# EAGLE library part XMC120X-T038 (library PatternAgents-Infineon)
Infineon XMC120X ARM Cortex M0 For the CADSoft Eagle CAD program : http://www.cadsoftusa.com/download-eagle/ Source LBR : http://www.patternagents.com Github : https://github.com/PatternAgents License : http://creativecommons.org/licenses/by-sa/4.0/ (Creative Commons 4.0) THIS SOFTWARE IS PROVIDED BY THE CONTRIBUTORS "AS IS" AND WITHOUT ANY EXPRESS OR IMPLIED WARRANTIES, INCLUDING, BUT NOT LIMITED TO, THE IMPLIED WARRANTIES OF MERCHANTABILITY AND FITNESS FOR A PARTICULAR PURPOSE ARE DISCLAIMED. IN NO EVENT SHALL THE COPYRIGHT OWNER OR CONTRIBUTORS BE LIABLE FOR ANY DIRECT, INDIRECT, INCIDENTAL, SPECIAL, EXEMPLARY, OR CONSEQUENTIAL DAMAGES (INCLUDING, BUT NOT LIMITED TO, PROCUREMENT OF SUBSTITUTE GOODS OR SERVICES; LOSS OF USE, DATA, OR PROFITS; OR BUSINESS INTERRUPTION) HOWEVER CAUSED AND ON ANY THEORY OF LIABILITY, WHETHER IN CONTRACT, STRICT LIABILITY, OR TORT (INCLUDING NEGLIGENCE OR OTHERWISE) ARISING IN ANY WAY OUT OF THE USE OF THIS SOFTWARE, EVEN IF ADVISED OF THE POSSIBILITY OF SUCH DAMAGE.
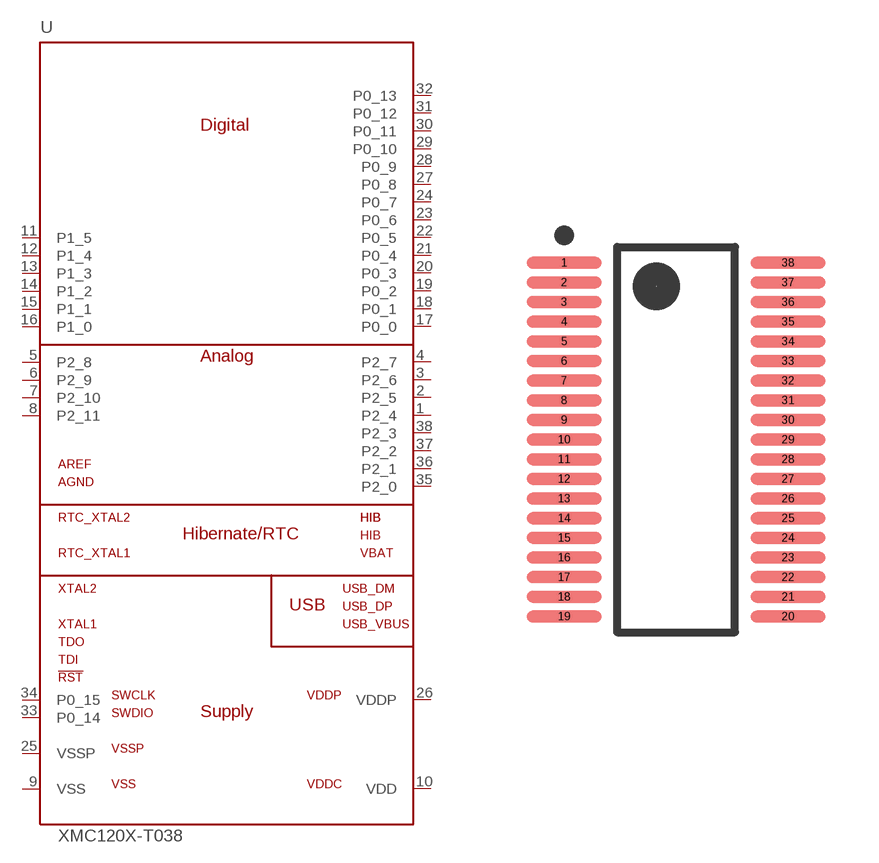
[diagram p9: symbol with the pads of INF-PG-TSSOP-38-9_M; footprint INF-PG-TSSOP-38-9_M]

Designator prefix U

## XMC120X-T038_M  [INF-PG-TSSOP-38-9_M]
1  P2_4
2  P2_5
3  P2_6
4  P2_7
5  P2_8
6  P2_9
7  P2_10
8  P2_11
9  VSS
10  VDD
11  P1_5  pwr
12  P1_4
13  P1_3
14  P1_2
15  P1_1
16  P1_0  pwr
17  P0_0  pwr
18  P0_1  pwr
19  P0_2  pwr
20  P0_3
21  P0_4
22  P0_5
23  P0_6
24  P0_7
25  VSSP
26  VDDP
27  P0_8  in
28  P0_9
29  P0_10
30  P0_11
31  P0_12
32  P0_13
33  P0_14
34  P0_15
35  P2_0
36  P2_1  pwr
37  P2_2  pwr
38  P2_3  pwr

## Footprint INF-PG-TSSOP-38-9_M (pad centres in mm)
Infineon PG-TSSOP-38-09 38 Pin Plastic (Green) Thin Shrink Small Outline Package Reference Page: <http://www.infineon.com/cms/packages/SMD_-_Surface_Mounted_Devices/P-PG-TSSOP/P-PG-TSSOP-38-9.html> For the CADSoft Eagle CAD program : http://www.cadsoftusa.com/download-eagle/ Source LBR : http://www.patternagents.com Github : https://github.com/PatternAgents License : http://creativecommons.org/licenses/by-sa/4.0/ (Creative Commons 4.0) THIS SOFTWARE IS PROVIDED BY THE CONTRIBUTORS "AS IS" AND WITHOUT ANY EXPRESS OR IMPLIED WARRANTIES, INCLUDING, BUT NOT LIMITED TO, THE IMPLIED WARRANTIES OF MERCHANTABILITY AND FITNESS FOR A PARTICULAR PURPOSE ARE DISCLAIMED. IN NO EVENT SHALL THE COPYRIGHT OWNER OR CONTRIBUTORS BE LIABLE FOR ANY DIRECT, INDIRECT, INCIDENTAL, SPECIAL, EXEMPLARY, OR CONSEQUENTIAL DAMAGES (INCLUDING, BUT NOT LIMITED TO, PROCUREMENT OF SUBSTITUTE GOODS OR SERVICES; LOSS OF USE, DATA, OR PROFITS; OR BUSINESS INTERRUPTION) HOWEVER CAUSED AND ON ANY THEORY OF LIABILITY, WHETHER IN CONTRACT, STRICT LIABILITY, OR TORT (INCLUDING NEGLIGENCE OR OTHERWISE) ARISING IN ANY WAY OUT OF THE USE OF THIS SOFTWARE, EVEN IF ADVISED OF THE POSSIBILITY OF SUCH DAMAGE.
smd 1.9 x 0.3: 1 -2.85,4.5; 2 -2.85,4; 3 -2.85,3.5; 4 -2.85,3; 5 -2.85,2.5; 6 -2.85,2; 7 -2.85,1.5; 8 -2.85,1; 9 -2.85,0.5; 10 -2.85,0; 11 -2.85,-0.5; 12 -2.85,-1; 13 -2.85,-1.5; 14 -2.85,-2; 15 -2.85,-2.5; 16 -2.85,-3; 17 -2.85,-3.5; 18 -2.85,-4; 19 -2.85,-4.5; 20 2.85,-4.5; 21 2.85,-4; 22 2.85,-3.5; 23 2.85,-3; 24 2.85,-2.5; 25 2.85,-2; 26 2.85,-1.5; 27 2.85,-1; 28 2.85,-0.5; 29 2.85,0; 30 2.85,0.5; 31 2.85,1; 32 2.85,1.5; 33 2.85,2; 34 2.85,2.5; 35 2.85,3; 36 2.85,3.5; 37 2.85,4; 38 2.85,4.5